# Altium footprint library Chips.PcbLib: 57 footprints (part 4 of 4)
Each footprint in its own frame and in the unit in brackets; x right, y up, seen from the top. Pads: shape width x height; smd on the part's side, far side on the other; paste and mask are expansions set on the pad; w line width, h text height; cw(c..) or ccw(c..) is an arc to the next point about the centre after c.
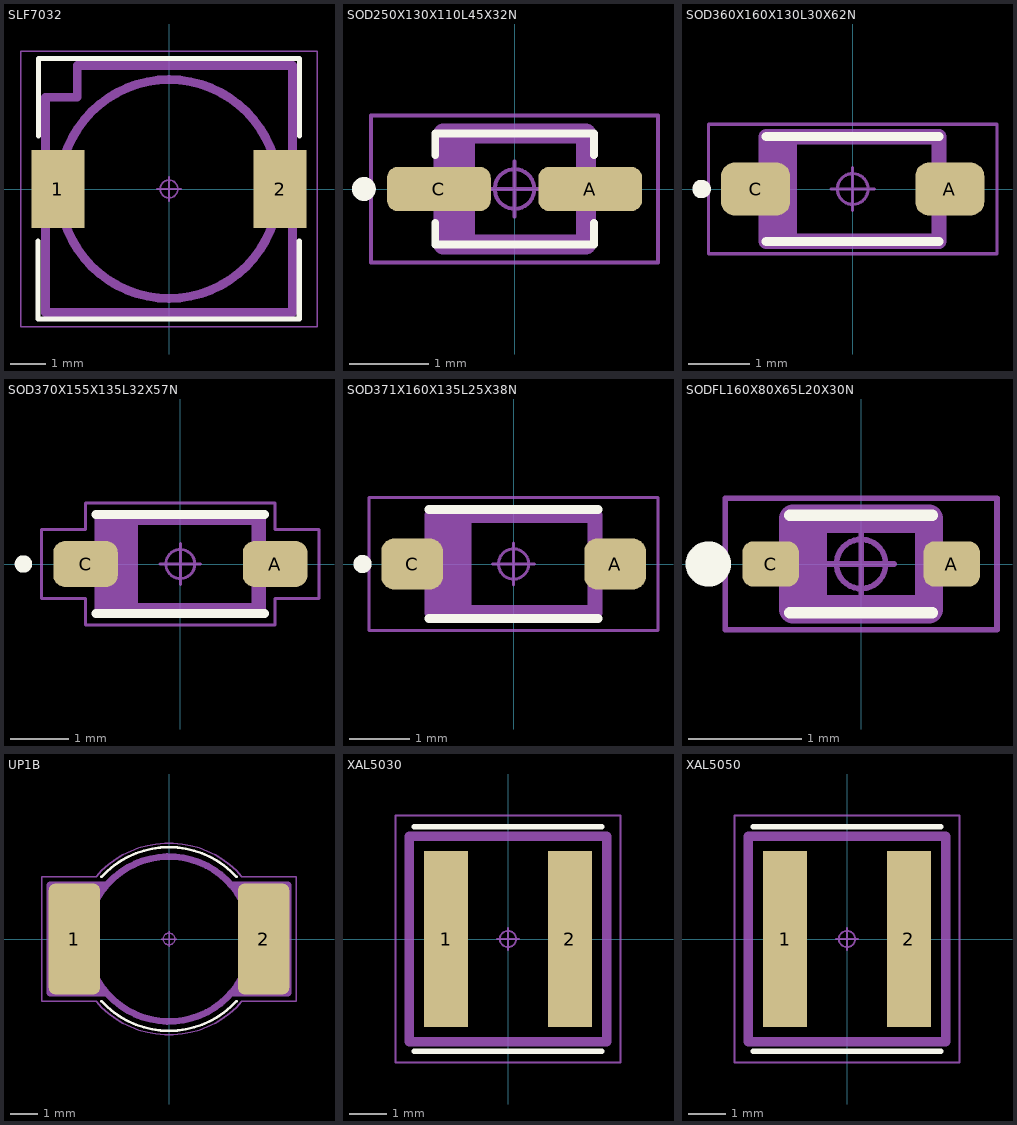
[diagram p3: the footprints below, top view; thin cyan lines are the x and y axes]

## SLF7032 [mm] "TDK SLF7032 type"
height 3.2
pads (2):
  rect 1.5x2.2 smd paste+0: 1(-3.15,0) 2(3.15,0)
Top Overlay:
  lines w0.15: -3.71,-1.483 -3.71,-3.683 3.69,-3.683 3.69,-1.483 ; -3.7,1.5 -3.7,3.7 3.7,3.7 3.7,1.5
Top Assembly:
  circle w0.25: c0,0 r3.1
  lines w0.25: -3.5,-3.5 -3.5,2.6 -2.6,2.6 -2.6,3.5 3.5,3.5 3.5,-3.5 -3.5,-3.5
  text ".Designator" at -2.6,-0.318 h1.5
Top Courtyard:
  circle w0.05: c0,0 r0.25
  lines w0.05: -0.35,0 0.35,0 ; 0,-0.35 0,0.35 ; -4.2,-3.9 -4.2,3.9 4.2,3.9 4.2,-3.9 -4.2,-3.9
3D body "SLF7032.STEP": height 3.2, standoff 0, extent -3.55,-3.5 3.55,3.5

## SOD250X130X110L45X32N [mm] "Diode, Small Outline Diode (SOD); 1.75 mm L X 1.30 mm W X 1.10 mm H body"
height 1.1
pads (2):
  rrect50% 1.31x0.56 smd: A(0.955,0) C(-0.955,0)
Top Overlay:
  circle w0.15: c-1.9,0 r0.075
  lines w0.1: -1,-0.43 -1,-0.7 1,-0.7 1,-0.43 ; -1,0.43 -1,0.7 1,0.7 1,0.43
Top Assembly:
  rectangle: -0.9,-0.7 -0.5,0.7
  lines w0.25: -0.9,-0.7 -0.9,0.7 0.9,0.7 0.9,-0.7 -0.9,-0.7
  text ".Designator" at -2.1,1.2 h1.5
Top Courtyard:
  circle w0.05: c0,0 r0.25
  lines w0.05: -0.35,0 0.35,0 ; 0,-0.35 0,0.35 ; -1.81,-0.93 -1.81,0.93 1.81,0.93 1.81,-0.93 -1.81,-0.93
3D body "SOD250X130X110L45X32.STEP": height 1.1, standoff 0, extent -1.25,-0.65 1.25,0.65

## SOD360X160X130L30X62N [mm] "Diode, Small Outline Diode (SOD); 2.675 mm L X 1.60 mm W X 1.30 mm H body"
height 1.3
pads (2):
  rrect51% 1.12x0.86 smd: A(1.575,0) C(-1.575,0)
Top Overlay:
  circle w0.15: c-2.45,0 r0.075
  lines w0.15: -1.4,-0.85 1.4,-0.85 ; -1.4,0.85 1.4,0.85
Top Assembly:
  rectangle: -1.375,-0.85 -0.9,0.825
  lines w0.25: -1.4,-0.85 -1.4,0.85 1.4,0.85 1.4,-0.85 -1.4,-0.85
  text ".Designator" at 0,0 h1.5
Top Courtyard:
  circle w0.05: c0,0 r0.25
  lines w0.05: -0.35,0 0.35,0 ; 0,-0.35 0,0.35 ; -2.34,-1.05 -2.34,1.05 2.34,1.05 2.34,-1.05 -2.34,-1.05
3D body "SOD360X160X130L30X62.STEP": height 1.3, standoff 0, extent -1.8,-0.8 1.8,0.8

## SOD370X155X135L32X57N [mm] "Diode, Small Outline Diode (SOD); 2.70 mm L X 1.55 mm W X 1.35 mm H body"
height 1.35
pads (2):
  rrect51% 1.11x0.79 smd: A(1.63,0) C(-1.63,0)
Top Overlay:
  circle w0.15: c-2.7,0 r0.075
  lines w0.15: -1.45,-0.85 1.45,-0.85 ; -1.45,0.85 1.45,0.85
Top Assembly:
  rectangle: -1.35,-0.8 -0.73,0.8
  lines w0.25: -1.35,-0.8 1.35,-0.8 1.35,0.8 -1.35,0.8 -1.35,-0.8
  text ".Designator" at -0.6,-0.5 h1.5
Top Courtyard:
  circle w0.05: c0,0 r0.25
  lines w0.05: -0.35,0 0.35,0 ; 0,-0.35 0,0.35 ; -2.385,-0.595 -1.63,-0.595 -1.63,-1.05 1.63,-1.05 1.63,-0.595 2.385,-0.595 2.385,0.595 1.63,0.595 1.63,1.05 -1.63,1.05 -1.63,0.595 -2.385,0.595 -2.385,-0.595
3D body "SOD370X155X135L32X57.STEP": height 1.35, standoff 0, extent -1.85,-0.775 1.85,0.775

## SOD371X160X135L25X38N [mm] "Diode, Small Outline Diode (SOD); 2.69 mm L X 1.60 mm W X 1.35 mm H body"
height 1.35
pads (2):
  rrect50% 1.02x0.84 smd: A(1.68,0) C(-1.68,0)
Top Overlay:
  circle w0.15: c-2.5,0 r0.075
  lines w0.15: -1.4,-0.9 1.4,-0.9 ; -1.4,0.9 1.4,0.9
Top Assembly:
  rectangle: -1.35,-0.8 -0.7,0.8
  lines w0.25: -1.35,-0.8 -1.35,0.8 1.35,0.8 1.35,-0.8 -1.35,-0.8
  text ".Designator" at -1.4,1.3 h1.5
Top Courtyard:
  circle w0.05: c0,0 r0.25
  lines w0.05: -0.35,0 0.35,0 ; 0,-0.35 0,0.35 ; -2.39,-1.1 -2.39,1.1 2.39,1.1 2.39,-1.1 -2.39,-1.1
3D body "SOD371X160X135L25X38.STEP": height 1.35, standoff 0, extent -1.855,-0.8 1.855,0.8

## SODFL160X80X65L20X30N [mm] "Diode, Small Outline Diode Flat Lead (SODFL); 1.20 mm L X 0.80 mm W X 0.65 mm H body"
height 0.65
pads (2):
  rrect50% 0.5x0.4 smd: A(0.8,0) C(-0.8,0)
Top Overlay:
  circle w0.2: c-1.35,0 r0.1
  lines w0.1: -0.63,-0.43 0.63,-0.43 ; -0.63,0.43 0.63,0.43
Top Assembly:
  rectangle: -0.6,-0.4 -0.3,0.4
  lines w0.25: -0.6,-0.4 -0.6,0.4 0.6,0.4 0.6,-0.4 -0.6,-0.4
  text ".Designator" at -2,0.8 h1.5
Top Courtyard:
  circle w0.05: c0,0 r0.218
  lines w0.05: -0.29,0 0.29,0 ; 0,-0.29 0,0.29 ; -1.2,-0.58 -1.2,0.58 1.2,0.58 1.2,-0.58 -1.2,-0.58
3D body "SODFL160X80X65L20X30.STEP": height 0.65, standoff 0, extent -0.8,-0.4 0.8,0.4

## UP1B [mm] "UP1B CASE Coiltronics"
height 5
pads (2):
  rrect25% 1.9x4.1 smd: 1(-3.5,0) 2(3.5,0)
Top Overlay:
  lines w0.1: -2.5,-2.3 ccw(c0,0) 2.5,-2.3 ; -2.5,2.3 cw(c0,0) 2.5,2.3
Top Assembly:
  circle w0.25: c0,0 r3.05
  lines w0.25: -2.3,-2 -4.4,-2 -4.4,2 -2.3,2 ; 2.3,-2 4.4,-2 4.4,2 2.3,2
  text ".Designator" at -2.4,-0.3 h1.5
Top Courtyard:
  circle w0.05: c0,0 r0.218
  lines w0.05: -0.29,0 0.29,0 ; 0,-0.29 0,0.29 ; -4.7,-2.3 -2.7,-2.3 ccw(c0,0) 2.7,-2.3 4.7,-2.3 4.7,2.3 2.7,2.3 ccw(c0,0) -2.7,2.3 -4.7,2.3 -4.7,-2.3
3D body "UP1B.STEP": height 5, standoff 0, extent -4.445,-3.05 4.445,3.05

## XAL5030 [mm] "Coilcraft XAL5030- series"
height 3.1
pads (2):
  rect 1.18x4.7 smd mask+0.102: 1(-1.655,0) 2(1.655,0)
Top Overlay:
  lines w0.15: -2.5,-3 2.5,-3 ; -2.5,3 2.5,3
Top Assembly:
  lines w0.25: -2.64,-2.74 2.64,-2.74 2.64,2.74 -2.64,2.74 -2.64,-2.74
  text ".Designator" at -2.1,-0.3 h1.5
Top Courtyard:
  circle w0.05: c0,0 r0.218
  lines w0.05: -0.29,0 0.29,0 ; 0,-0.29 0,0.29 ; -3,-3.3 -3,3.3 3,3.3 3,-3.3 -3,-3.3
3D body "XAL5030.SLDPRT": height 3.1, standoff 0, extent -2.64,-2.74 2.64,2.74

## XAL5050 [mm] "Coilcraft XAL5050- series"
height 5.1
pads (2):
  rect 1.18x4.7 smd mask+0.102: 1(-1.655,0) 2(1.655,0)
Top Overlay:
  lines w0.15: -2.5,-3 2.5,-3 ; -2.5,3 2.5,3
Top Assembly:
  lines w0.25: -2.64,-2.74 2.64,-2.74 2.64,2.74 -2.64,2.74 -2.64,-2.74
  text ".Designator" at -2.1,-0.3 h1.5
Top Courtyard:
  circle w0.05: c0,0 r0.218
  lines w0.05: -0.29,0 0.29,0 ; 0,-0.29 0,0.29 ; -3,-3.3 -3,3.3 3,3.3 3,-3.3 -3,-3.3
3D body "XAL5050.SLDPRT": height 5.1, standoff 0, extent -2.64,-2.74 2.64,2.74